# Altium footprint library LibMain.PCBLIB: 68 footprints (part 3 of 5)
Each footprint in its own frame and in the unit in brackets; x right, y up, seen from the top. Pads: shape width x height; smd on the part's side, far side on the other; paste and mask are expansions set on the pad; w line width, h text height; cw(c..) or ccw(c..) is an arc to the next point about the centre after c.
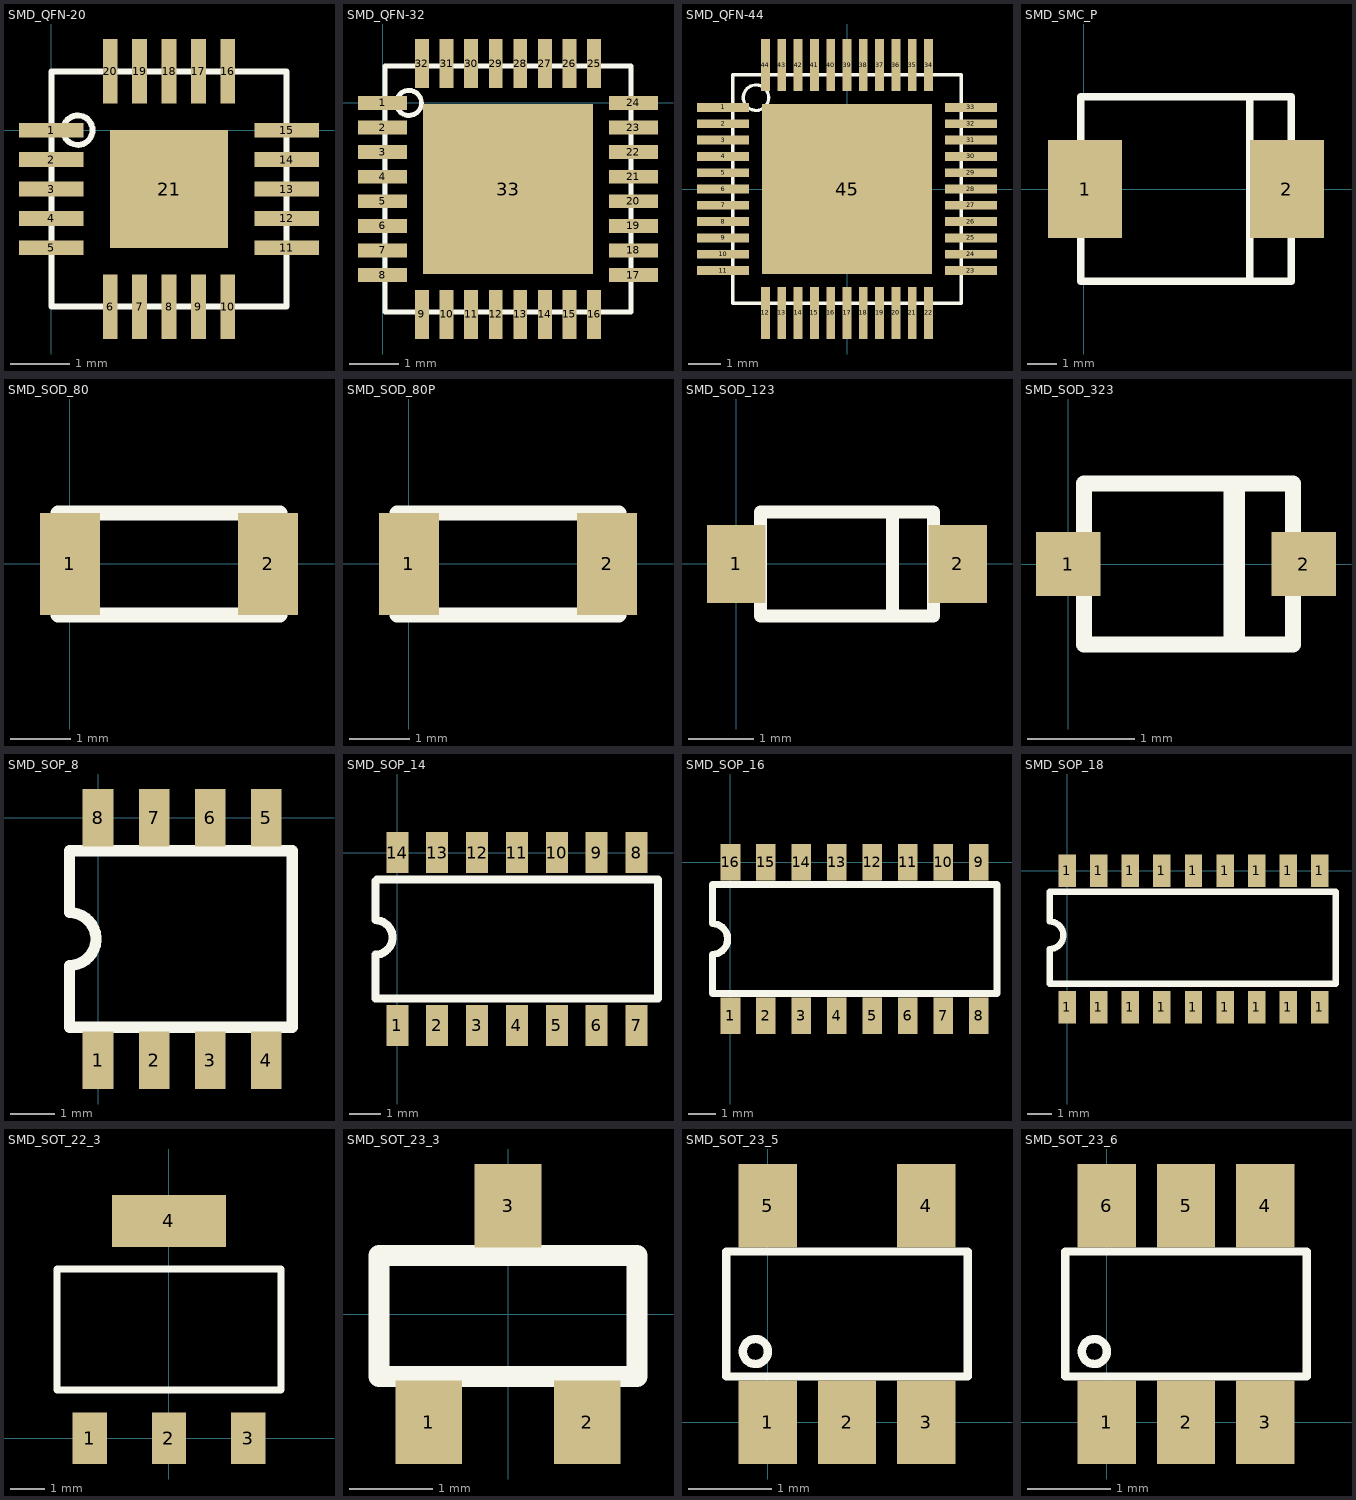
[diagram p2: the footprints below, top view; thin cyan lines are the x and y axes]

## SMD_QFN-20 [mm] "SMD_QFN-20"
pads (21):
  rect 1.1x0.25 smd mask+0.05: 1(0,0) 2(0,-0.5) 3(0,-1) 4(0,-1.5) 5(0,-2) 11(4,-2) 12(4,-1.5) 13(4,-1) 14(4,-0.5) 15(4,0)
  rect 0.25x1.1 smd mask+0.05: 6(1,-3) 7(1.5,-3) 8(2,-3) 9(2.5,-3) 10(3,-3) 16(3,1) 17(2.5,1) 18(2,1) 19(1.5,1) 20(1,1)
  rect 2x2 smd: 21(2,-1)
Top Overlay:
  circle w0.1: c0.45,0 r0.25
  lines w0.1: 0,-3 0,1 1.9,1 4,1 4,-3 1.15,-3 0,-3

## SMD_QFN-32 [mm] "SMD_QFN-32"
pads (33):
  rect 1x0.28 smd mask+0.05: 1(0,0) 2(0,-0.5) 3(0,-1) 4(0,-1.5) 5(0,-2) 6(0,-2.5) 7(0,-3) 8(0,-3.5) 17(5.1,-3.5) 18(5.1,-3) 19(5.1,-2.5) 20(5.1,-2) 21(5.1,-1.5) 22(5.1,-1) 23(5.1,-0.5) 24(5.1,0)
  rect 0.28x1 smd mask+0.05: 9(0.8,-4.3) 10(1.3,-4.3) 11(1.8,-4.3) 12(2.3,-4.3) 13(2.8,-4.3) 14(3.3,-4.3) 15(3.8,-4.3) 16(4.3,-4.3) 25(4.3,0.8) 26(3.8,0.8) 27(3.3,0.8) 28(2.8,0.8) 29(2.3,0.8) 30(1.8,0.8) 31(1.3,0.8) 32(0.8,0.8)
  rect 3.45x3.45 smd: 33(2.55,-1.75)
Top Overlay:
  circle w0.1: c0.535,0 r0.255
  lines w0.1: 0.05,-4.25 0.05,0.75 5.05,0.75 5.05,-4.25 0.05,-4.25

## SMD_QFN-44 [mm] "SMD_QFN-44"
pads (45):
  rect 1.6x0.27 smd mask+0.02: 1(-3.8,2.5) 2(-3.8,2) 3(-3.8,1.5) 4(-3.8,1) 5(-3.8,0.5) 6(-3.8,0) 7(-3.8,-0.5) 8(-3.8,-1) 9(-3.8,-1.5) 10(-3.8,-2) 11(-3.8,-2.5) 23(3.8,-2.5) 24(3.8,-2) 25(3.8,-1.5) 26(3.8,-1) 27(3.8,-0.5) 28(3.8,0) 29(3.8,0.5) 30(3.8,1) 31(3.8,1.5) 32(3.8,2) 33(3.8,2.5)
  rect 0.27x1.6 smd mask+0.02: 12(-2.5,-3.8) 13(-2,-3.8) 14(-1.5,-3.8) 15(-1,-3.8) 16(-0.5,-3.8) 17(0,-3.8) 18(0.5,-3.8) 19(1,-3.8) 20(1.5,-3.8) 21(2,-3.8) 22(2.5,-3.8) 34(2.5,3.8) 35(2,3.8) 36(1.5,3.8) 37(1,3.8) 38(0.5,3.8) 39(0,3.8) 40(-0.5,3.8) 41(-1,3.8) 42(-1.5,3.8) 43(-2,3.8) 44(-2.5,3.8)
  rect 5.2x5.2 smd: 45(0,0)
Top Overlay:
  circle w0.1: c-2.791,2.8 r0.391
  lines w0.1: -3.5,-3.5 -3.5,3.5 3.5,3.5 3.5,-3.5 -3.5,-3.5

## SMD_SMC_P [mm] "SMD_SMC (polarized)"
height 2.5
pads (2):
  rect 2.5x3.3 smd: 1(0.05,0) 2(6.85,0)
Top Overlay:
  lines w0.254: 5.6,-3.05 5.6,3.1 ; -0.1,-3.1 7,-3.1 7,3.1 -0.1,3.1 -0.1,-3.1

## SMD_SOD_80 [mm] "SMD_SOD_80"
pads (2):
  rect 1x1.7 smd: 1(0,0) 2(3.3,0)
Top Overlay:
  lines w0.254: -0.2,-0.85 3.5,-0.85 3.5,0.85 -0.2,0.85 -0.2,-0.85

## SMD_SOD_80P [mm] "SMD_SOD_80P"
pads (2):
  rect 1x1.7 smd: 1(0,0) 2(3.3,0)
Top Overlay:
  lines w0.254: 2.925,-0.85 2.925,0.85 ; -0.2,-0.85 3.5,-0.85 3.5,0.85 -0.2,0.85 -0.2,-0.85

## SMD_SOD_123 [mm]
height 1.35
pads (2):
  rect 0.9x1.2 smd: 1(0,0) 2(3.4,0)
Top Overlay:
  lines w0.2: 2.4,-0.8 2.4,0.8 ; 0.375,-0.8 0.375,0.8 3.025,0.8 3.025,-0.8 0.375,-0.8

## SMD_SOD_323 [mm] "SMD_SOD_323"
height 1.15
pads (2):
  rect 0.6x0.6 smd: 1(0,0) 2(2.2,0)
Top Overlay:
  lines w0.15: 0.15,-0.75 0.15,0.75 2.1,0.75 2.1,-0.75 0.15,-0.75
  lines w0.2: 1.55,-0.7 1.55,0.7

## SMD_SOP_8 [mm] "SMD_SOP_8"
pads (8):
  rect 0.7x1.3 smd: 1(0,-5.5) 2(1.27,-5.5) 3(2.54,-5.5) 4(3.81,-5.5) 5(3.81,0) 6(2.54,0) 7(1.27,0) 8(0,0)
Top Overlay:
  lines w0.254: -0.65,-4.75 -0.65,-3.35 ccw(c-0.65,-2.75) -0.65,-2.15 -0.65,-0.75 4.4,-0.75 4.4,-4.75 -0.65,-4.75

## SMD_SOP_14 [mm] "SMD_SOP_14"
pads (14):
  rect 0.7x1.3 smd: 1(0,-5.5) 2(1.27,-5.5) 3(2.54,-5.5) 4(3.81,-5.5) 5(5.08,-5.5) 6(6.35,-5.5) 7(7.62,-5.5) 8(7.62,0) 9(6.35,0) 10(5.08,0) 11(3.81,0) 12(2.54,0) 13(1.27,0) 14(0,0)
Top Overlay:
  lines w0.254: -0.7,-0.9 -0.7,-2.15 cw(c-0.7,-2.7) -0.7,-3.25 -0.7,-4.65 8.3,-4.65 8.3,-0.85 -0.65,-0.85

## SMD_SOP_16 [mm] "SMD_SOP_16"
pads (16):
  rect 0.7x1.3 smd: 1(0,-5.5) 2(1.27,-5.5) 3(2.54,-5.5) 4(3.81,-5.5) 5(5.08,-5.5) 6(6.35,-5.5) 7(7.62,-5.5) 8(8.89,-5.5) 9(8.89,0) 10(7.62,0) 11(6.35,0) 12(5.08,0) 13(3.81,0) 14(2.54,0) 15(1.27,0) 16(0,0)
Top Overlay:
  lines w0.254: -0.65,-4.7 9.55,-4.7 9.55,-0.8 -0.65,-0.8 -0.65,-2.2 cw(c-0.65,-2.75) -0.65,-3.3 -0.65,-4.7

## SMD_SOP_18 [mm] "SMD_SOP_18"
pads (18):
  rect 0.7x1.3 smd: 1(0,-5.5) 1(0,0) 1(1.27,-5.5) 1(1.27,0) 1(2.54,-5.5) 1(2.54,0) 1(3.81,-5.5) 1(3.81,0) 1(5.08,-5.5) 1(5.08,0) 1(6.35,-5.5) 1(6.35,0) 1(7.62,-5.5) 1(7.62,0) 1(8.89,-5.5) 1(8.89,0) 1(10.16,-5.5) 1(10.16,0)
Top Overlay:
  lines w0.254: -0.7,-4.55 -0.7,-3.15 ccw(c-0.7,-2.6) -0.7,-2.05 -0.7,-0.85 10.8,-0.85 10.8,-4.55 -0.7,-4.55

## SMD_SOT_22_3 [mm] "SMD_SOT_22_3"
height 1.6
pads (4):
  rect 1x1.5 smd: 1(-2.3,0) 2(0,0) 3(2.3,0)
  rect 3.3x1.5 smd: 4(0,6.3)
Top Overlay:
  lines w0.2: -3.25,1.4 -3.25,4.9 3.25,4.9 3.25,1.4 -3.25,1.4

## SMD_SOT_23_3 [mm] "SMD_SOT_23_3"
height 1
pads (3):
  rect 0.8x1 smd: 1(-0.95,-1.3) 2(0.95,-1.3) 3(0,1.3)
Top Overlay:
  lines w0.254: -1.55,-0.75 1.55,-0.75 1.55,0.7 -1.55,0.7 -1.55,-0.75

## SMD_SOT_23_5 [mm] "SMD_SOT_23_5"
height 1.45
pads (5):
  rect 0.7x1 smd: 1(0,0) 2(0.95,0) 3(1.9,0) 4(1.9,2.6) 5(0,2.6)
Top Overlay:
  circle w0.1: c-0.15,0.85 r0.15
  lines w0.1: -0.5,0.55 2.4,0.55 2.4,2.05 -0.5,2.05 -0.5,0.55

## SMD_SOT_23_6 [mm] "SMD_SOT_23_6"
height 1.45
pads (6):
  rect 0.7x1 smd: 1(0,0) 2(0.95,0) 3(1.9,0) 4(1.9,2.6) 5(0.95,2.6) 6(0,2.6)
Top Overlay:
  circle w0.1: c-0.15,0.85 r0.15
  lines w0.1: -0.5,0.55 2.4,0.55 2.4,2.05 -0.5,2.05 -0.5,0.55